# Altium schematic symbol library 野火_H743X_核心板_V1.0_原理图封装库_AD格式.SCHLIB: 25 symbols
Pins are listed as number, name and electrical type; pins without a type are passive.

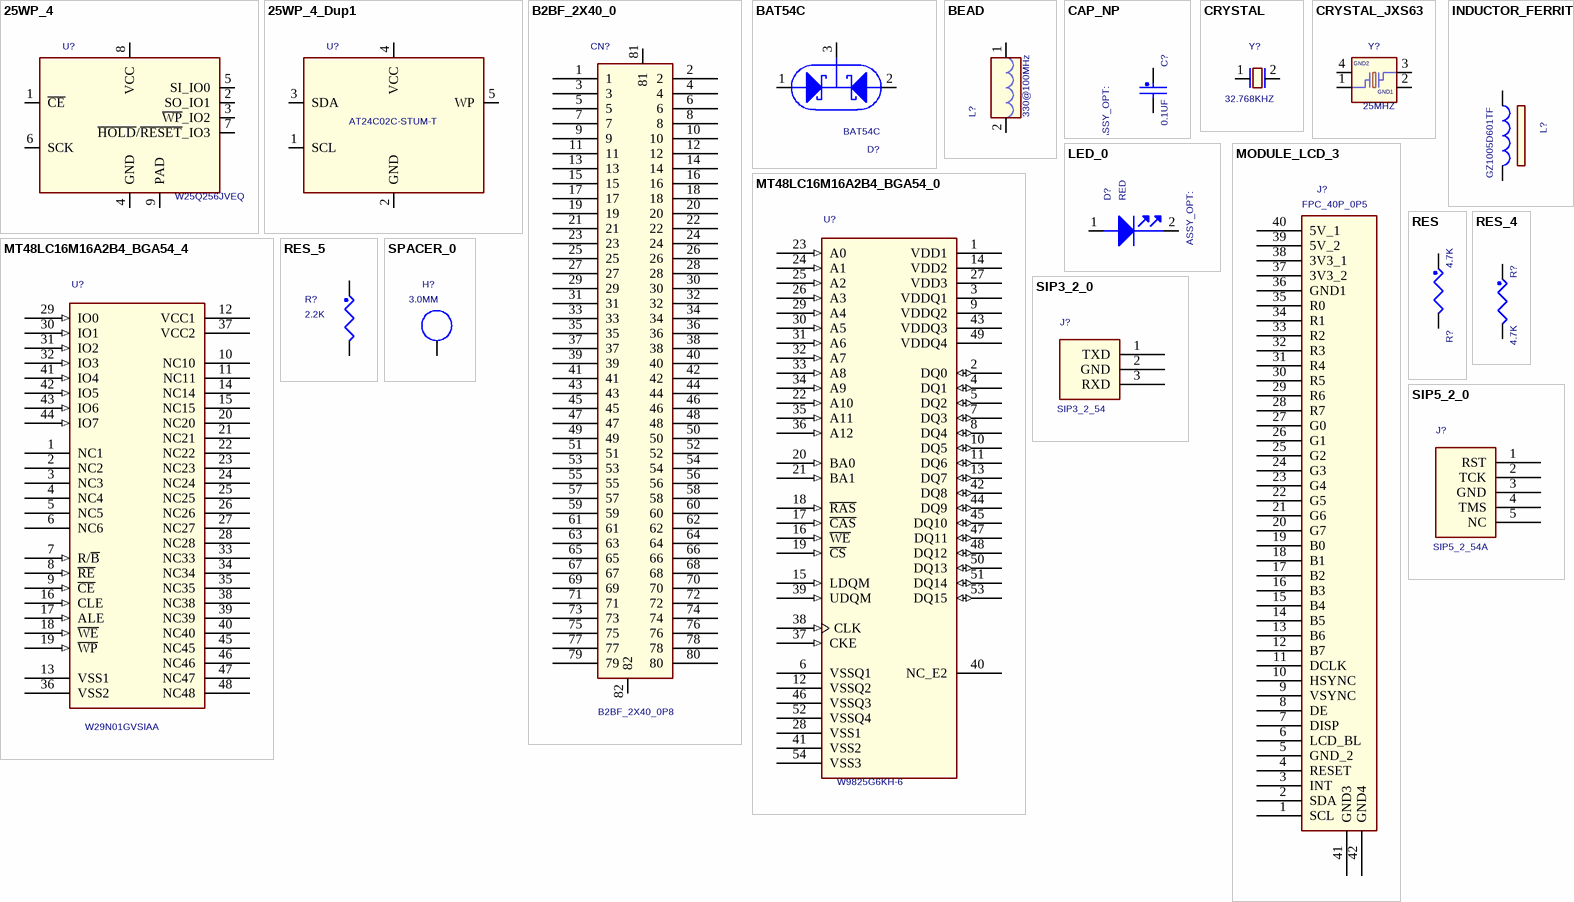
[diagram p0: symbols 25WP_4 to SPACER_0]

## 25WP_4
designator U?, comment W25Q256JVEQ
IC MEM FLASH QPI 64Mb 1.65-1.95V SOIC8W; AGILE_PN: 334-77734; MFG_NAME01: ISSI; MFG_PN01: IS25WP064A-JBLE; Temp_Range: -40C to +105C; CAD_APPROVED: Yes; CLASS: IC; ROHS: Yes; HEIGHT: 2.16MM
footprint WSON8_8x6
pins: 1 ~{CE}, 2 SO_IO1, 3 ~{WP}_IO2, 4 GND (power), 5 SI_IO0, 6 SCK, 7 ~{HOLD}/~{RESET}_IO3, 8 VCC (power), 9 PAD (power)

## 25WP_4_Dup1
designator U?, comment AT24C02C-STUM-T
IC MEM FLASH QPI 64Mb 1.65-1.95V SOIC8W; CAD_APPROVED: Yes; Temp_Range: -40C to +105C; MFG_PN01: IS25WP064A-JBLE; MFG_NAME01: ISSI; AGILE_PN: 334-77734; CLASS: IC; HEIGHT: 2.16MM; ROHS: Yes
footprint SOT23-5
pins: 1 SCL, 2 GND, 3 SDA, 4 VCC (power), 5 WP

## B2BF_2X40_0
designator CN?, comment B2BF_2X40_0P8
footprint B2BF-2X40-0P8
pins: 1, 2, 3, 4, 5, 6, 7, 8, 9, 10, 11, 12, 13, 14, 15, 16, 17, 18, 19, 20, 21, 22, 23, 24, 25, 26, 27, 28, 29, 30, 31, 32, 33, 34, 35, 36, 37, 38, 39, 40, 41, 42, 43, 44, 45, 46, 47, 48, 49, 50, 51, 52, 53, 54, 55, 56, 57, 58, 59, 60, 61, 62, 63, 64, 65, 66, 67, 68, 69, 70, 71, 72, 73, 74, 75, 76, 77, 78, 79, 80, 81, 82

## BAT54C
designator D?
footprint SOT23T02
footprint SOT23
pins: 1 ANODE, 2 NC, 3 CATHODE

## BEAD
designator L?, comment 330@100MHz
IND FER BEAD 330OHM@100MHZ 1.7A 0603; PART_TYPE: FERRITE\BEAD; CLASS: DISCRETE; AGILE_PN: 180-78156; Tolerance: 25%; MFG_NAME01: TDK; MFG_PN01: MPZ1608S331A; CAD_APPROVED: Yes; ROHS: Yes; HEIGHT: 0.95MM; TOL: 25%
footprint L0603
pins: 1, 2

## CAP_NP
designator C?, comment 0.1UF
CAP CER 0.1UF 10V 10% X5R 0402; CLASS: DISCRETE; AGILE_PN: 150-75634; MFG_NAME01: KEMET; MFG_PN01: C0402C104K8PAC; CAD_APPROVED: Yes; FPLIST: CC0402_25,CC0402_HD,0402_CC; Tolerance: 10%; ROHS: Yes; HEIGHT: 0.64MM; VOLTAGE: 10V
footprint C0402
pins: 1, 2

## CRYSTAL
designator Y?, comment 32.768KHZ
XTAL 32.768KHZ 7PF 20PPM -- SMT; CLASS: IC; AGILE_PN: 230-78102; MFG_NAME01: EPSON ELECTRONICS; MFG_PN01: FC-135 32.7680KA-AG3; CAD_APPROVED: Yes; ROHS: Yes; HEIGHT: 0.9MM
footprint 3215
pins: 1, 2

## CRYSTAL_JXS63
designator Y?, comment 25MHZ
XTAL 24MHZ -- 30PPM 3.2X2.5MM SMD; CLASS: IC; AGILE_PN: 230-77452; MFG_NAME01: TXC CORP; MFG_PN01: 7V24000002; CAD_APPROVED: Yes; ROHS: Yes; HEIGHT: 0.9MM
footprint 3225
pins: 1, 2 GND1 (power), 3, 4 GND2 (power)

## INDUCTOR_FERRITE
designator L?, comment GZ1005D601TF
IND FER BEAD 120 OHM@100MHZ 0.5A 25% 0402; PART_TYPE: FERRITE\BEAD; CLASS: DISCRETE; FPLIST: IND_0402,0402_CC; CAD_APPROVED: Yes; MFG_PN01: BLM15AG121SN1D; MFG_NAME01: Murata; AGILE_PN: 180-77771; HEIGHT: 0.55MM; ROHS: Yes; Tolerance: 25%
footprint L0402
pins: 1, 2

## LED_0
designator D?, comment RED
LED GRN SGL 25MA 0603; CLASS: IC; CAD_APPROVED: Yes; MFG_PN01: KPT-1608SGC; MFG_NAME01: KINGBRIGHT; AGILE_PN: 370-76549; HEIGHT: 0.85MM; ROHS: Yes
footprint LED0603
pins: 1 ANODE, 2 CATHODE

## MODULE_LCD_3
designator J?, comment FPC_40P_0P5
SUBASSEMBLY CON 1X40 FPC SMT RA + CON 1X6 FPC/FFC RA SKT + TFT DISPLAY 4.3INCH; CLASS: IO; CAD_APPROVED: Yes; MFG_PN01: 211-79974,211-79976,375-00010; AGILE_PN: 750-77763; HEIGHT: 6.75MM; ROHS: Yes; MFG_NAME01: SUBASSEMBLY
footprint FPC-40P-0P5
pins: 1 SCL, 2 SDA, 3 INT, 4 RESET, 5 GND_2, 6 LCD_BL, 7 DISP, 8 DE, 9 VSYNC, 10 HSYNC, 11 DCLK, 12 B7, 13 B6, 14 B5, 15 B4, 16 B3, 17 B2, 18 B1, 19 B0, 20 G7, 21 G6, 22 G5, 23 G4, 24 G3, 25 G2, 26 G1, 27 G0, 28 R7, 29 R6, 30 R5, 31 R4, 32 R3, 33 R2, 34 R1, 35 R0, 36 GND1, 37 3V3_2, 38 3V3_1, 39 5V_2, 40 5V_1, 41 GND3, 42 GND4

## MT48LC16M16A2B4_BGA54_0
designator U?, comment W9825G6KH-6
IC MEM SDRAM 16MX16 6NS 3.3V VFBGA54; AGILE_PN: 334-77696; MFG_NAME01: MICRON; MFG_PN01: MT48LC16M16A2B4-6A IT:G; CAD_APPROVED: Yes; CLASS: IC; ROHS: Yes; HEIGHT: 1 MM
footprint TSOP54
pins: 1 VDD1 (power), 2 DQ0 (io), 3 VDDQ1 (power), 4 DQ1 (io), 5 DQ2 (io), 6 VSSQ1 (power), 7 DQ3 (io), 8 DQ4 (io), 9 VDDQ2 (power), 10 DQ5 (io), 11 DQ6 (io), 12 VSSQ2 (power), 13 DQ7 (io), 14 VDD2 (power), 15 LDQM (in), 16 ~{WE} (in), 17 ~{CAS} (in), 18 ~{RAS} (in), 19 ~{CS} (in), 20 BA0 (in), 21 BA1 (in), 22 A10 (in), 23 A0 (in), 24 A1 (in), 25 A2 (in), 26 A3 (in), 27 VDD3 (power), 28 VSS1 (power), 29 A4 (in), 30 A5 (in), 31 A6 (in), 32 A7 (in), 33 A8 (in), 34 A9 (in), 35 A11 (in), 36 A12 (in), 37 CKE (in), 38 CLK (in), 39 UDQM (in), 40 NC_E2, 41 VSS2 (power), 42 DQ8 (io), 43 VDDQ3 (power), 44 DQ9 (io), 45 DQ10 (io), 46 VSSQ3 (power), 47 DQ11 (io), 48 DQ12 (io), 49 VDDQ4 (power), 50 DQ13 (io), 51 DQ14 (io), 52 VSSQ4 (power), 53 DQ15 (io), 54 VSS3 (power)

## MT48LC16M16A2B4_BGA54_4
designator U?, comment W29N01GVSIAA
IC MEM SDRAM 16MX16 6NS 3.3V VFBGA54; CAD_APPROVED: Yes; MFG_PN01: MT48LC16M16A2B4-6A IT:G; MFG_NAME01: MICRON; AGILE_PN: 334-77696; CLASS: IC; HEIGHT: 1 MM; ROHS: Yes
footprint TSOP48
pins: 1 NC1, 2 NC2, 3 NC3, 4 NC4, 5 NC5, 6 NC6, 7 R/~{B} (in), 8 ~{RE} (in), 9 ~{CE} (in), 10 NC10, 11 NC11, 12 VCC1 (power), 13 VSS1, 14 NC14, 15 NC15, 16 CLE (in), 17 ALE (in), 18 ~{WE} (in), 19 ~{WP} (in), 20 NC20, 21 NC21, 22 NC22, 23 NC23, 24 NC24, 25 NC25, 26 NC26, 27 NC27, 28 NC28, 29 IO0 (in), 30 IO1 (in), 31 IO2 (in), 32 IO3 (in), 33 NC33, 34 NC34, 35 NC35, 36 VSS2, 37 VCC2 (power), 38 NC38, 39 NC39, 40 NC40, 41 IO4 (in), 42 IO5 (in), 43 IO6 (in), 44 IO7 (in), 45 NC45, 46 NC46, 47 NC47, 48 NC48

## RES
designator R?, comment 4.7K
RES MF 1.0M 1/10W 5% 0402; CLASS: DISCRETE; AGILE_PN: 470-79978; MFG_NAME01: PANASONIC; MFG_PN01: ERJ-2GEJ105X; CAD_APPROVED: Yes; FPLIST: RC0402_25,RC0402_HD,0402_CC; HEIGHT: 0.4MM; Tolerance: 5%; ROHS: Yes
footprint R0402
pins: 1, 2

## RES_4
designator R?, comment 4.7K
RES MF 4.7K 1/16W 5% 0402; CLASS: DISCRETE; FPLIST: RC0402_25,RC0402_HD,0402_CC; CAD_APPROVED: Yes; MFG_PN01: RK73B1ETTP472J; MFG_NAME01: KOA SPEER; AGILE_PN: 470-75626; HEIGHT: 0.41mm; ROHS: Yes; Tolerance: 5%
footprint R0402
pins: 1, 2

## RES_5
designator R?, comment 2.2K
RES MF 10K 1/16W 5% 0402; CLASS: DISCRETE; AGILE_PN: 470-75557; MFG_NAME01: VISHAY INTERTECHNOLOGY; MFG_PN01: CRCW040210K0JNED; CAD_APPROVED: Yes; FPLIST: RC0402_25,RC0402_HD,0402_CC; HEIGHT: 0.4 MM; TOL: 5%; Tolerance: 5%; ROHS: Yes
footprint R0402
pins: 1, 2

## SIP3_2_0
designator J?, comment SIP3_2_54
footprint SIP3-2P54
pins: 1 TXD, 2 GND, 3 RXD

## SIP5_2_0
designator J?, comment SIP5_2_54A
footprint SIP5-2P54
pins: 1 RST, 2 TCK, 3 GND, 4 TMS, 5 NC

## SPACER_0
designator H?, comment 3.0MM
FASTENER, STANDOFF 4.5MMX3.53XM3.0X0.5 ROUND THR .635"L BRASS; CLASS: IC; AGILE_PN: 280-76498; MFG_NAME01: UNICORP; MFG_PN01: MSS251-R-1-A-16; ASSY_OPT: DNP; CAD_APPROVED: Yes; ROHS: Yes; HEIGHT: 16.13MM
footprint T3
pins: 1 NC_1

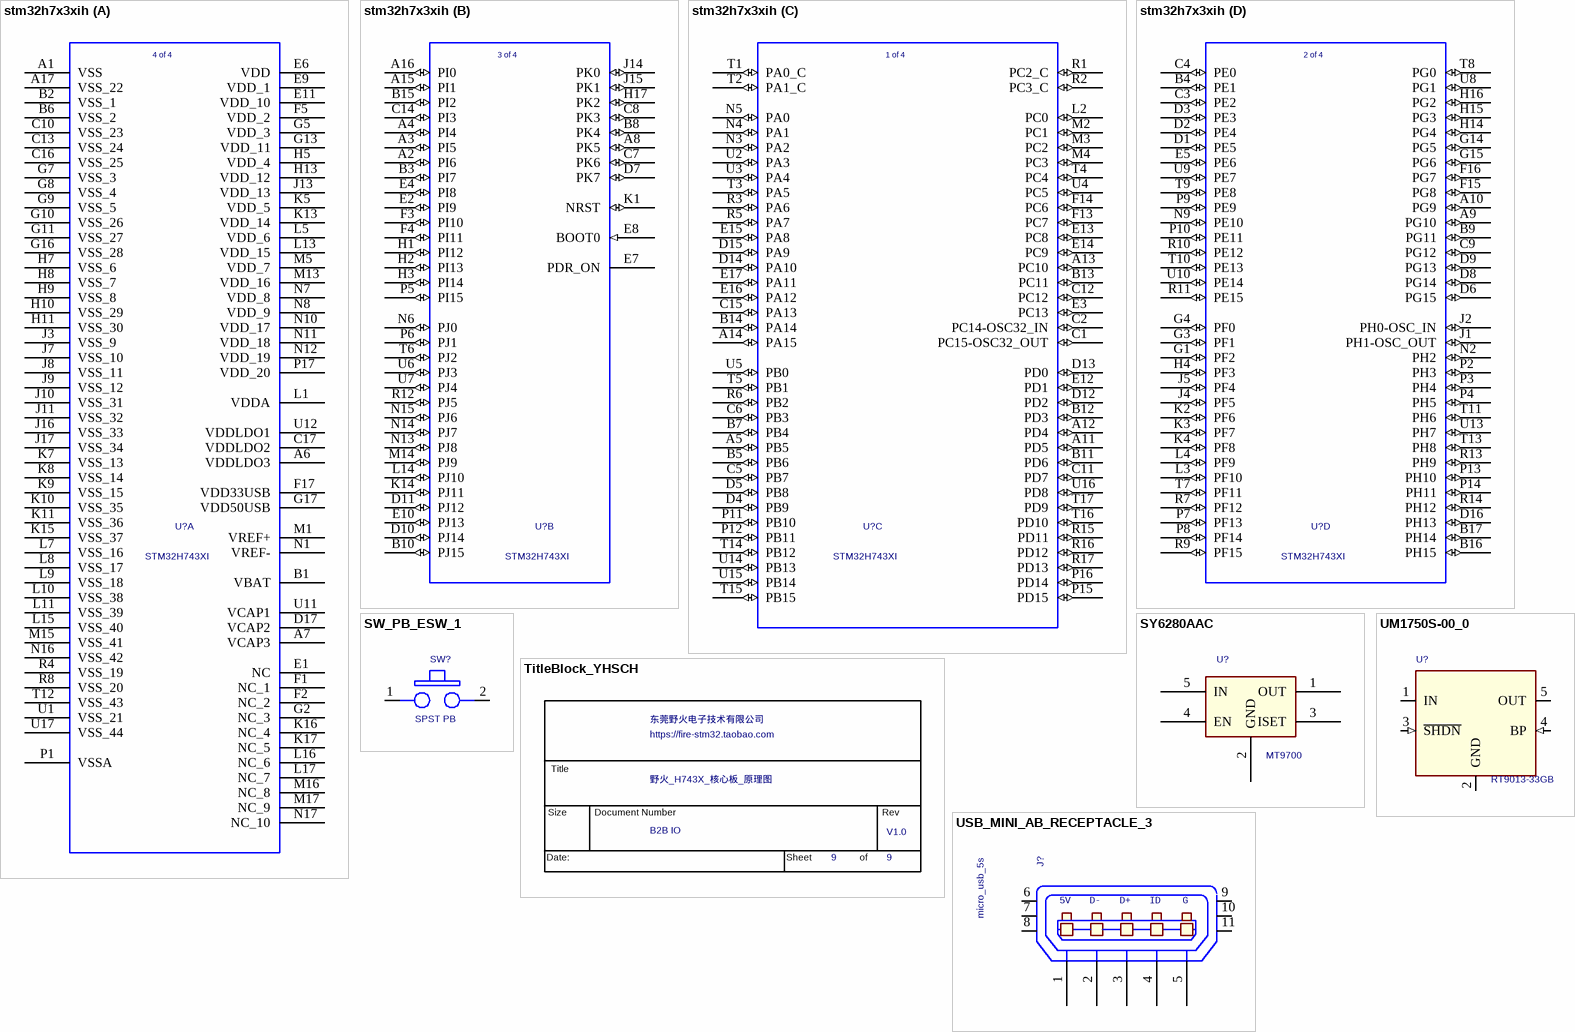
[diagram p1: symbols stm32h7x3xih to USB_MINI_AB_RECEPTACLE_3]

## stm32h7x3xih
designator U?, comment STM32H743XI
Manufacturer_Part_Number: stm32h7x3xih; OriginalSymbolOrigin: (30000,20000); Vendor: STMicroelectronics; Designator: 4; Copyright: Copyright (C) 2016 Accelerated Designs. All rights reserved; PackageName: stm32h7x3xih; < Value >: STM32H743XI
footprint TFBGA14X14X1P2P0P824025L
footprint bga265_0r8_14x14
part A pins: A1 VSS (power), A6 VDDLDO3 (power), A7 VCAP3 (power), A17 VSS_22 (power), B1 VBAT (power), B2 VSS_1 (power), B6 VSS_2 (power), C10 VSS_23 (power), C13 VSS_24 (power), C16 VSS_25 (power), C17 VDDLDO2 (power), D17 VCAP2 (power), E1 NC, E6 VDD (power), E9 VDD_1 (power), E11 VDD_10 (power), F1 NC_1, F2 NC_2, F5 VDD_2 (power), F17 VDD33USB (power), G2 NC_3, G5 VDD_3 (power), G7 VSS_3 (power), G8 VSS_4 (power), G9 VSS_5 (power), G10 VSS_26 (power), G11 VSS_27 (power), G13 VDD_11 (power), G16 VSS_28 (power), G17 VDD50USB (power), H5 VDD_4 (power), H7 VSS_6 (power), H8 VSS_7 (power), H9 VSS_8 (power), H10 VSS_29 (power), H11 VSS_30 (power), H13 VDD_12 (power), J3 VSS_9 (power), J7 VSS_10 (power), J8 VSS_11 (power), J9 VSS_12 (power), J10 VSS_31 (power), J11 VSS_32 (power), J13 VDD_13 (power), J16 VSS_33 (power), J17 VSS_34 (power), K5 VDD_5 (power), K7 VSS_13 (power), K8 VSS_14 (power), K9 VSS_15 (power), K10 VSS_35 (power), K11 VSS_36 (power), K13 VDD_14 (power), K15 VSS_37 (power), K16 NC_4, K17 NC_5, L1 VDDA (power), L5 VDD_6 (power), L7 VSS_16 (power), L8 VSS_17 (power), L9 VSS_18 (power), L10 VSS_38 (power), L11 VSS_39 (power), L13 VDD_15 (power), L15 VSS_40 (power), L16 NC_6, L17 NC_7, M1 VREF+ (power), M5 VDD_7 (power), M13 VDD_16 (power), M15 VSS_41 (power), M16 NC_8, M17 NC_9, N1 VREF- (power), N7 VDD_8 (power), N8 VDD_9 (power), N10 VDD_17 (power), N11 VDD_18 (power), N12 VDD_19 (power), N16 VSS_42 (power), N17 NC_10, P1 VSSA (power), P17 VDD_20 (power), R4 VSS_19 (power), R8 VSS_20 (power), T12 VSS_43 (power), U1 VSS_21 (power), U11 VCAP1 (power), U12 VDDLDO1 (power), U17 VSS_44 (power)
part B pins: A2 PI6 (io), A3 PI5 (io), A4 PI4 (io), A8 PK5 (io), A15 PI1 (io), A16 PI0 (io), B3 PI7 (io), B8 PK4 (io), B10 PJ15 (io), B15 PI2 (io), C7 PK6 (io), C8 PK3 (io), C14 PI3 (io), D7 PK7 (io), D10 PJ14 (io), D11 PJ12 (io), E2 PI9 (io), E4 PI8 (io), E7 PDR_ON, E8 BOOT0 (in), E10 PJ13 (io), F3 PI10 (io), F4 PI11 (io), H1 PI12 (io), H2 PI13 (io), H3 PI14 (io), H17 PK2 (io), J14 PK0 (io), J15 PK1 (io), K1 NRST (io), K14 PJ11 (io), L14 PJ10 (io), M14 PJ9 (io), N6 PJ0 (io), N13 PJ8 (io), N14 PJ7 (io), N15 PJ6 (io), P5 PI15 (io), P6 PJ1 (io), R12 PJ5 (io), T6 PJ2 (io), U6 PJ3 (io), U7 PJ4 (io)
part C pins: A5 PB5 (io), A11 PD5 (io), A12 PD4 (io), A13 PC10 (io), A14 PA15 (io), B5 PB6 (io), B7 PB4 (io), B11 PD6 (io), B12 PD3 (io), B13 PC11 (io), B14 PA14 (io), C1 PC15-OSC32_OUT (io), C2 PC14-OSC32_IN (io), C5 PB7 (io), C6 PB3 (io), C11 PD7 (io), C12 PC12 (io), C15 PA13 (io), D4 PB9 (io), D5 PB8 (io), D12 PD2 (io), D13 PD0 (io), D14 PA10 (io), D15 PA9 (io), E3 PC13 (io), E12 PD1 (io), E13 PC8 (io), E14 PC9 (io), E15 PA8 (io), E16 PA12 (io), E17 PA11 (io), F13 PC7 (io), F14 PC6 (io), L2 PC0 (io), M2 PC1 (io), M3 PC2 (io), M4 PC3 (io), N3 PA2 (io), N4 PA1 (io), N5 PA0 (io), P11 PB10 (io), P12 PB11 (io), P15 PD15 (io), P16 PD14 (io), R1 PC2_C (io), R2 PC3_C (io), R3 PA6 (io), R5 PA7 (io), R6 PB2 (io), R15 PD11 (io), R16 PD12 (io), R17 PD13 (io), T1 PA0_C (io), T2 PA1_C (io), T3 PA5 (io), T4 PC4 (io), T5 PB1 (io), T14 PB12 (io), T15 PB15 (io), T16 PD10 (io), T17 PD9 (io), U2 PA3 (io), U3 PA4 (io), U4 PC5 (io), U5 PB0 (io), U14 PB13 (io), U15 PB14 (io), U16 PD8 (io)
part D pins: A9 PG10 (io), A10 PG9 (io), B4 PE1 (io), B9 PG11 (io), B16 PH15 (io), B17 PH14 (io), C3 PE2 (io), C4 PE0 (io), C9 PG12 (io), D1 PE5 (io), D2 PE4 (io), D3 PE3 (io), D6 PG15 (io), D8 PG14 (io), D9 PG13 (io), D16 PH13 (io), E5 PE6 (io), F15 PG8 (io), F16 PG7 (io), G1 PF2 (io), G3 PF1 (io), G4 PF0 (io), G14 PG5 (io), G15 PG6 (io), H4 PF3 (io), H14 PG4 (io), H15 PG3 (io), H16 PG2 (io), J1 PH1-OSC_OUT (io), J2 PH0-OSC_IN (io), J4 PF5 (io), J5 PF4 (io), K2 PF6 (io), K3 PF7 (io), K4 PF8 (io), L3 PF10 (io), L4 PF9 (io), N2 PH2 (io), N9 PE10 (io), P2 PH3 (io), P3 PH4 (io), P4 PH5 (io), P7 PF13 (io), P8 PF14 (io), P9 PE9 (io), P10 PE11 (io), P13 PH10 (io), P14 PH11 (io), R7 PF12 (io), R9 PF15 (io), R10 PE12 (io), R11 PE15 (io), R13 PH9 (io), R14 PH12 (io), T7 PF11 (io), T8 PG0 (io), T9 PE8 (io), T10 PE13 (io), T11 PH6 (io), T13 PH8 (io), U8 PG1 (io), U9 PE7 (io), U10 PE14 (io), U13 PH7 (io)
part A text: 4 of 4
part B text: 3 of 4
part C text: 1 of 4
part D text: 2 of 4

## SW_PB_ESW_1
designator SW?, comment SPST PB
SW SPST MOM NO PB TACT 50mA 50V SMT; CLASS: IC; CAD_APPROVED: Yes; MFG_PN01: TL3301AF260QG/TR; MFG_NAME01: E SWITCH; AGILE_PN: 510-77562; HEIGHT: 5MM; ROHS: Yes
footprint SW3X6-SMD
pins: 1 A1, 2 A2

## SY6280AAC
designator U?, comment MT9700
footprint SOT23-5
pins: 1 OUT, 2 GND, 3 ISET, 4 EN, 5 IN

## TitleBlock_YHSCH
designator *?  Page Count: 9  OrgName: 东莞野火电子技术有限公司  Title: 野火_H743X_核心板_原理图  RevCode: V1.0  Doc: B2B IO  (hidden comment: TitleBlock_YHSCH)  (graphical)
Cage Code: 1; Page Number: 9; OrgAddr1: https://fire-stm32.taobao.com
text: Title; Size; Document Number; Rev; Date:; Sheet; of

## UM1750S-00_0
designator U?, comment RT9013-33GB
IC VREG LDO ADJ 1-5V 350mA 2.5-6V SOT23-5; CAD_APPROVED: Yes; MFG_PN01: UM1750S-00; MFG_NAME01: Union Semiconductor, Inc; AGILE_PN: 315-80554; CLASS: IC; HEIGHT: 1.25MM; ROHS: Yes
footprint SOT23-5
pins: 1 IN (power), 2 GND (power), 3 ~{SHDN} (in), 4 BP (in), 5 OUT (power)

## USB_MINI_AB_RECEPTACLE_3
designator J?, comment micro_usb_5s
CON 5 USB MICRO_AB RA SKT SMT 0.65MM SP 110H AU; CLASS: IO; AGILE_PN: 211-80104; MFG_NAME01: ANYTRONIC CORPORATION LIMITED; MFG_PN01: 23970101#LCP-58LF; Temp_Range: -55&#8451; to 105&#8451;; CAD_APPROVED: Yes; ROHS: Yes; HEIGHT: 2.8MM
footprint MICRO_USB_5S
pins: 1 P1, 2 P2, 3 P3, 4 P4, 5 P5, 6 SHLD1, 7 SHLD2, 8 SHLD3, 9 SHLD4, 10 SHLD5, 11 SHLD6
text: 5V; D-; D+; ID; G